# Altium footprint library SN74LVC4245ADW.PcbLib: 4 footprints
Each footprint in its own frame and in the unit in brackets; x right, y up, seen from the top. Pads: shape width x height; smd on the part's side, far side on the other; paste and mask are expansions set on the pad; w line width, h text height; cw(c..) or ccw(c..) is an arc to the next point about the centre after c.
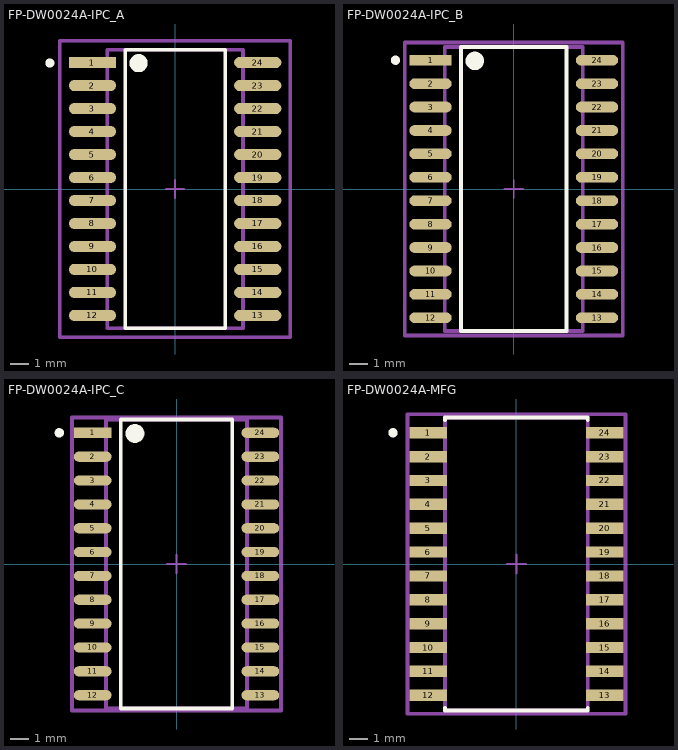
[diagram p0: the footprints below, top view; thin cyan lines are the x and y axes]

## FP-DW0024A-IPC_A [mil]
pads (24):
  rect 102.47x24.49 smd paste+0 mask+0: 1(-179.74,275)
  rrect100% 102.47x24.49 smd paste+0 mask+0: 2(-179.74,225) 3(-179.74,175) 4(-179.74,125) 5(-179.74,75) 6(-179.74,25) 7(-179.74,-25) 8(-179.74,-75) 9(-179.74,-125) 10(-179.74,-175) 11(-179.74,-225) 12(-179.74,-275) 13(179.74,-275) 14(179.74,-225) 15(179.74,-175) 16(179.74,-125) 17(179.74,-75) 18(179.74,-25) 19(179.74,25) 20(179.74,75) 21(179.74,125) 22(179.74,175) 23(179.74,225) 24(179.74,275)
Top Overlay:
  circle w19.68: c-79.3,273.62 r9.84
  circle w9.84: c-272.32,274.02 r4.92
  lines w7.87: -108.82,-303.15 108.82,-303.15 108.82,303.15 -108.82,303.15 -108.82,-303.15
Top Assembly:
  lines w7.87: -250.66,-322.83 250.66,-322.83 250.66,322.83 -250.66,322.83 -250.66,-322.83
  text ".Designator" at 0,7.39 h39.37
Top 3D Body:
  lines w7.87: -147.64,-303.15 147.64,-303.15 147.64,303.15 -147.64,303.15 -147.64,-303.15
Top Courtyard:
  lines w7.87: -250.66,-322.83 250.66,-322.83 250.66,322.83 -250.66,322.83 -250.66,-322.83
Top Component Center:
  lines w3.94: -19.68,0 19.68,0 ; 0,-19.68 0,19.68
3D body "IC_Texas_Instruments_CD74HC4067M96_eec.STEP": height 10, standoff 0, extent -250.66,-322.83 250.66,322.83

## FP-DW0024A-IPC_B [mil]
pads (24):
  rect 90.66x22.92 smd paste+0 mask+0: 1(-177.78,275)
  rrect100% 90.66x22.92 smd paste+0 mask+0: 2(-177.78,225) 3(-177.78,175) 4(-177.78,125) 5(-177.78,75) 6(-177.78,25) 7(-177.78,-25) 8(-177.78,-75) 9(-177.78,-125) 10(-177.78,-175) 11(-177.78,-225) 12(-177.78,-275) 13(177.78,-275) 14(177.78,-225) 15(177.78,-175) 16(177.78,-125) 17(177.78,-75) 18(177.78,-25) 19(177.78,25) 20(177.78,75) 21(177.78,125) 22(177.78,175) 23(177.78,225) 24(177.78,275)
Top Overlay:
  circle w19.68: c-83.23,273.62 r9.84
  circle w9.84: c-252.63,275 r4.92
  lines w7.87: -112.76,-303.15 112.76,-303.15 112.76,303.15 -112.76,303.15 -112.76,-303.15
Top Assembly:
  lines w7.87: -232.95,-312.99 232.95,-312.99 232.95,312.99 -232.95,312.99 -232.95,-312.99
  text ".Designator" at 0,7.39 h39.37
Top 3D Body:
  lines w7.87: -147.64,-303.15 147.64,-303.15 147.64,303.15 -147.64,303.15 -147.64,-303.15
Top Courtyard:
  lines w7.87: -232.95,-312.99 232.95,-312.99 232.95,312.99 -232.95,312.99 -232.95,-312.99
Top Component Center:
  lines w3.94: -19.68,0 19.68,0 ; 0,-19.68 0,19.68
3D body "IC_Texas_Instruments_CD74HC4067M96_eec.STEP": height 10, standoff 0, extent -232.95,-312.99 232.95,312.99

## FP-DW0024A-IPC_C [mil]
pads (24):
  rect 78.85x21.34 smd paste+0 mask+0: 1(-175.81,275)
  rrect100% 78.85x21.34 smd paste+0 mask+0: 2(-175.81,225) 3(-175.81,175) 4(-175.81,125) 5(-175.81,75) 6(-175.81,25) 7(-175.81,-25) 8(-175.81,-75) 9(-175.81,-125) 10(-175.81,-175) 11(-175.81,-225) 12(-175.81,-275) 13(175.81,-275) 14(175.81,-225) 15(175.81,-175) 16(175.81,-125) 17(175.81,-75) 18(175.81,-25) 19(175.81,25) 20(175.81,75) 21(175.81,125) 22(175.81,175) 23(175.81,225) 24(175.81,275)
Top Overlay:
  circle w19.68: c-87.17,273.62 r9.84
  circle w9.84: c-245.74,275 r4.92
  lines w7.87: -116.7,-303.15 116.7,-303.15 116.7,303.15 -116.7,303.15 -116.7,-303.15
Top Assembly:
  lines w7.87: -219.17,-307.09 219.17,-307.09 219.17,307.09 -219.17,307.09 -219.17,-307.09
  text ".Designator" at 0,7.39 h39.37
Top 3D Body:
  lines w7.87: -147.64,-303.15 147.64,-303.15 147.64,303.15 -147.64,303.15 -147.64,-303.15
Top Courtyard:
  lines w7.87: -219.17,-307.09 219.17,-307.09 219.17,307.09 -219.17,307.09 -219.17,-307.09
Top Component Center:
  lines w3.94: -19.68,0 19.68,0 ; 0,-19.68 0,19.68
3D body "IC_Texas_Instruments_CD74HC4067M96_eec.STEP": height 10, standoff 0, extent -219.17,-307.09 219.17,307.09

## FP-DW0024A-MFG [mm]
pads (24):
  rect 2x0.6 smd paste-1000 mask+0: 1(-4.7,6.985) 2(-4.7,5.715) 3(-4.7,4.445) 4(-4.7,3.175) 5(-4.7,1.905) 6(-4.7,0.635) 7(-4.7,-0.635) 8(-4.7,-1.905) 9(-4.7,-3.175) 10(-4.7,-4.445) 11(-4.7,-5.715) 12(-4.7,-6.985) 13(4.7,-6.985) 14(4.7,-5.715) 15(4.7,-4.445) 16(4.7,-3.175) 17(4.7,-1.905) 18(4.7,-0.635) 19(4.7,0.635) 20(4.7,1.905) 21(4.7,3.175) 22(4.7,4.445) 23(4.7,5.715) 24(4.7,6.985)
Top Overlay:
  circle w0.25: c-6.575,6.985 r0.125
  lines w0.2: -3.8,-7.66 -3.8,-7.8 3.8,-7.8 3.8,-7.66 ; -3.8,7.66 -3.8,7.8 3.8,7.8 3.8,7.66
Top Paste:
  rectangle: 3.725,-7.26 5.675,-6.71
  rectangle: 3.725,-5.99 5.675,-5.44
  rectangle: 3.725,-4.72 5.675,-4.17
  rectangle: 3.725,-3.45 5.675,-2.9
  rectangle: 3.725,-2.18 5.675,-1.63
  rectangle: 3.725,-0.91 5.675,-0.36
  rectangle: 3.725,0.36 5.675,0.91
  rectangle: 3.725,1.63 5.675,2.18
  rectangle: 3.725,2.9 5.675,3.45
  rectangle: 3.725,4.17 5.675,4.72
  rectangle: 3.725,5.44 5.675,5.99
  rectangle: 3.725,6.71 5.675,7.26
  rectangle: -5.675,6.71 -3.725,7.26
  rectangle: -5.675,5.44 -3.725,5.99
  rectangle: -5.675,4.17 -3.725,4.72
  rectangle: -5.675,2.9 -3.725,3.45
  rectangle: -5.675,1.63 -3.725,2.18
  rectangle: -5.675,0.36 -3.725,0.91
  rectangle: -5.675,-0.91 -3.725,-0.36
  rectangle: -5.675,-2.18 -3.725,-1.63
  rectangle: -5.675,-3.45 -3.725,-2.9
  rectangle: -5.675,-4.72 -3.725,-4.17
  rectangle: -5.675,-5.99 -3.725,-5.44
  rectangle: -5.675,-7.26 -3.725,-6.71
Top Assembly:
  lines w0.2: -5.8,-7.975 5.8,-7.975 5.8,7.975 -5.8,7.975 -5.8,-7.975
  text ".Designator" at 0,0.188 h1
Top 3D Body:
  lines w0.2: -3.8,-7.8 3.8,-7.8 3.8,7.8 -3.8,7.8 -3.8,-7.8
Top Courtyard:
  lines w0.2: -5.8,-7.975 5.8,-7.975 5.8,7.975 -5.8,7.975 -5.8,-7.975
Top Component Center:
  lines w0.1: -0.5,0 0.5,0 ; 0,-0.5 0,0.5
3D body "IC_Texas_Instruments_CD74HC4067M96_eec.STEP": height 0.25, standoff 0, extent -5.8,-7.975 5.8,7.975